# Altium footprint library CONBNC002.PcbLib: 1 footprints
Each footprint in its own frame and in the unit in brackets; x right, y up, seen from the top. Pads: shape width x height; smd on the part's side, far side on the other; paste and mask are expansions set on the pad; w line width, h text height; cw(c..) or ccw(c..) is an arc to the next point about the centre after c.
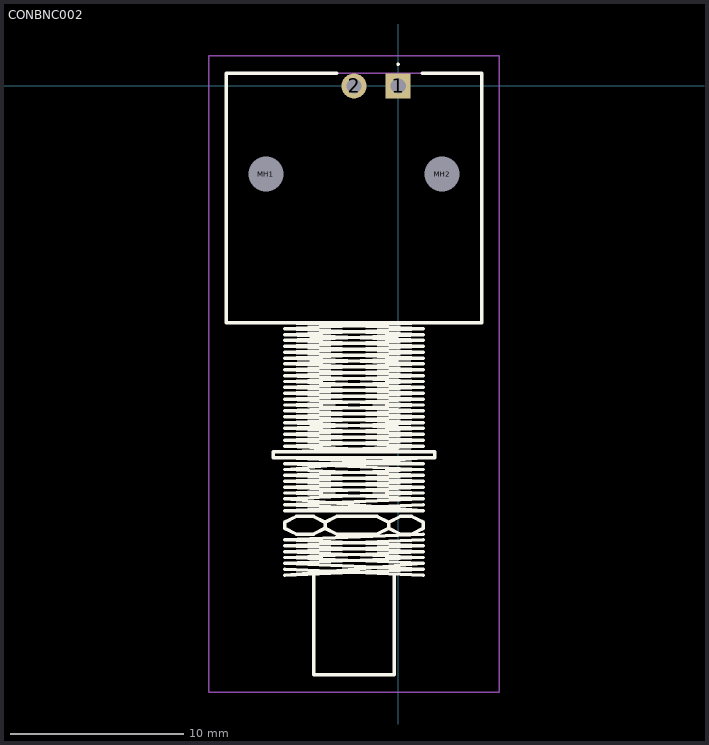
[diagram p0: the footprint, top view; thin cyan lines are the x and y axes]

## CONBNC002 [mm]
pads (4):
  rect 1.446x1.446 hole 0.89: 1(0,0)
  round 1.446 hole 0.89: 2(-2.54,0)
  round 1 hole 2 unplated: MH1(-7.62,-5.08) MH2(2.54,-5.08)
Top Overlay:
  lines w0.1: 0,1.2 cw(c0,1.25) 0,1.3 ; 0,1.2 0,1.2 ; 0,1.2 ccw(c0,1.25) 0,1.3 ; 0,1.3 0,1.3
  lines w0.2: -6.54,-21.442 1.46,-21.78 -6.54,-21.78 1.46,-22.118 -6.54,-22.457 1.46,-22.795 -6.54,-23.133 1.46,-23.472 -6.54,-23.81 1.46,-24.487 ; -6.54,-13.66 1.46,-13.998 -6.54,-14.337 1.46,-14.675 -6.54,-15.013 1.46,-15.352 -6.54,-15.69 1.46,-16.028 -6.54,-16.367 1.46,-16.705 -6.54,-17.043 1.46,-17.382 -6.54,-17.72 1.46,-18.058 -6.54,-18.397 1.46,-18.735 -6.54,-19.073 1.46,-19.412 -6.54,-19.75 1.46,-20.088 -6.54,-20.427 1.46,-20.765 -6.207,-21.103 ; -4.873,-28.208 -4.873,-33.96 -0.207,-33.96 -0.207,-28.208 ; -3.54,0.74 -9.915,0.74 -9.915,-13.66 4.835,-13.66 4.835,0.74 1.393,0.74 ; 1.46,-26.178 -6.54,-26.517 1.46,-26.855 -6.54,-27.193 1.46,-27.532 -6.54,-28.208 1.46,-27.87 -6.54,-27.532 1.46,-27.193 -6.54,-26.855 1.46,-26.517 -6.54,-26.178 1.46,-25.84 ; 1.46,-24.148 -6.54,-24.487 1.46,-24.487 ; 1.46,-21.442 -6.54,-22.118 1.46,-22.457 -6.54,-22.795 1.46,-23.133 -6.54,-23.472 1.46,-23.81 -6.54,-24.148 1.46,-24.487 ; 1.46,-21.103 -6.54,-20.765 1.46,-20.427 -6.54,-20.088 1.46,-19.75 -6.54,-19.412 1.46,-19.073 -6.54,-18.735 1.46,-18.397 -6.54,-18.058 1.46,-17.72 -6.54,-17.382 1.46,-17.043 -6.54,-16.705 1.46,-16.367 -6.54,-16.028 1.46,-15.69 -6.54,-15.352 1.46,-15.013 -6.54,-14.675 1.46,-14.337 -6.54,-13.998 1.46,-13.66 ; -6.207,-21.103 -7.207,-21.103 -7.207,-21.442 2.127,-21.442 2.127,-21.103 -6.207,-21.103 ; -4.207,-25.502 -4.207,-25.163 ; -4.207,-25.502 -3.54,-25.84 -1.207,-25.84 -0.54,-25.502 ; -4.207,-25.502 -4.873,-25.84 -5.873,-25.84 -6.54,-25.502 -6.54,-25.163 -5.873,-24.825 -4.873,-24.825 -4.207,-25.163 ; -4.207,-25.163 -3.54,-24.825 -1.207,-24.825 -0.54,-25.163 ; -0.54,-25.502 -0.54,-25.163 ; -0.54,-25.502 0.127,-25.84 0.793,-25.84 1.46,-25.502 1.46,-25.163 0.793,-24.825 0.127,-24.825 -0.54,-25.163 ; -6.54,-27.87 1.46,-28.208 -6.54,-27.87
Mechanical 15:
  lines w0.1: -6.54,-13.66 1.46,-13.998 -6.54,-14.337 1.46,-14.675 -6.54,-15.013 1.46,-15.352 -6.54,-15.69 1.46,-16.028 -6.54,-16.367 1.46,-16.705 -6.54,-17.043 1.46,-17.382 -6.54,-17.72 1.46,-18.058 -6.54,-18.397 1.46,-18.735 -6.54,-19.073 1.46,-19.412 -6.54,-19.75 1.46,-20.088 -6.54,-20.427 1.46,-20.765 -6.207,-21.103 ; -4.873,-28.208 -4.873,-33.96 -0.207,-33.96 -0.207,-28.208 ; -3.54,-21.103 2.127,-21.103 2.127,-21.442 -7.207,-21.442 -7.207,-21.103 1.46,-21.103 -6.54,-20.765 1.46,-20.427 -6.54,-20.088 1.46,-19.75 -6.54,-19.412 1.46,-19.073 -6.54,-18.735 1.46,-18.397 -6.54,-18.058 1.46,-17.72 -6.54,-17.382 1.46,-17.043 -6.54,-16.705 1.46,-16.367 -6.54,-16.028 1.46,-15.69 -6.54,-15.352 1.46,-15.013 -6.54,-14.675 1.46,-14.337 -6.54,-13.998 1.46,-13.66 ; -9.915,-13.66 4.835,-13.66 4.835,0.74 -9.915,0.74 -9.915,-13.66
Mechanical 20:
  lines w0.1: -10.915,-34.96 5.835,-34.96 5.835,1.74 -10.915,1.74 -10.915,-34.96